# EAGLE library part GBA_SMDONLY (library retrode-org)
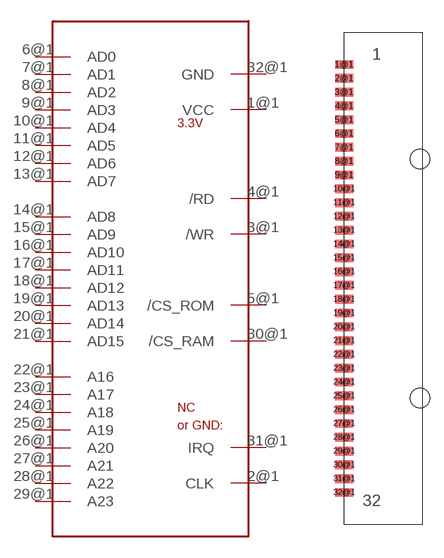
[diagram p0: symbol with the pads of GBCONN2_SMD_OLIMEX_RIGHTORIENT; footprint GBCONN2_SMD_OLIMEX_RIGHTORIENT]

Designator prefix -

## GBA_SMDONLYSMD  [GBCONN2_SMD_OLIMEX_RIGHTORIENT]
1@1  VCC  sup
2@1  CLK
3@1  /WR
4@1  /RD
5@1  /CS_ROM
6@1  AD0
7@1  AD1
8@1  AD2
9@1  AD3
10@1  AD4
11@1  AD5
12@1  AD6
13@1  AD7
14@1  AD8
15@1  AD9
16@1  AD10
17@1  AD11
18@1  AD12
19@1  AD13
20@1  AD14
21@1  AD15
22@1  A16
23@1  A17
24@1  A18
25@1  A19
26@1  A20
27@1  A21
28@1  A22
29@1  A23
30@1  /CS_RAM
31@1  IRQ
32@1  GND  sup

## Footprint GBCONN2_SMD_OLIMEX_RIGHTORIENT (pad centres in mm)
smd 1.93 x 0.965: 1@1 0,23.25; 2@1 0,21.75; 3@1 0,20.25; 4@1 0,18.75; 5@1 0,17.25; 6@1 0,15.75; 7@1 0,14.25; 8@1 0,12.75; 9@1 0,11.25; 10@1 0,9.75; 11@1 0,8.25; 12@1 0,6.75; 13@1 0,5.25; 14@1 0,3.75; 15@1 0,2.25; 16@1 0,0.75; 17@1 0,-0.75; 18@1 0,-2.25; 19@1 0,-3.75; 20@1 0,-5.25; 21@1 0,-6.75; 22@1 0,-8.25; 23@1 0,-9.75; 24@1 0,-11.25; 25@1 0,-12.75; 26@1 0,-14.25; 27@1 0,-15.75; 28@1 0,-17.25; 29@1 0,-18.75; 30@1 0,-20.25; 31@1 0,-21.75; 32@1 0,-23.25
hole 2.1 at 8.25,-13
hole 2.1 at 8.25,13